# Altium schematic symbol library lib_te.SchLib: 1 symbol
Pins are listed as number, name and electrical type; pins without a type are passive.

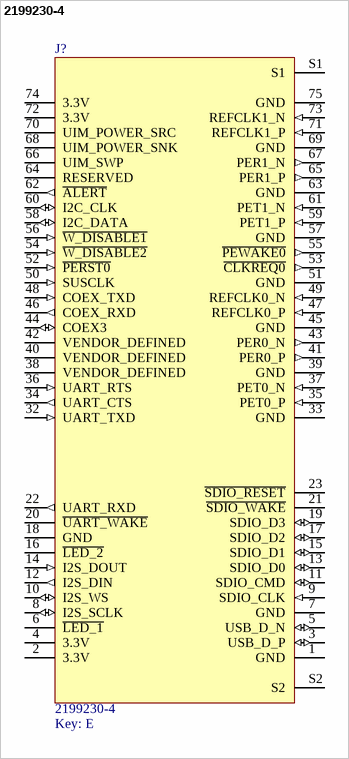
[diagram p0: symbol 2199230-4]

## 2199230-4
designator J?  Key: E
M.2 NGFF, M.2 Connectors, Connector Height .165 in [4.2 mm], E Keying Code, Gold, Board-to-Board, 67 Position, .5mm [.02in] Centerline
footprint TE_2199230-4
pins: 1 GND (power), 2 3.3V (power), 3 USB_D_P (io), 4 3.3V (power), 5 USB_D_N (io), 6 ~{LED_1} (oc), 7 GND (power), 8 I2S_SCLK (io), 9 SDIO_CLK (in), 10 I2S_WS (io), 11 SDIO_CMD (io), 12 I2S_DIN (out), 13 SDIO_D0 (io), 14 I2S_DOUT (in), 15 SDIO_D1 (io), 16 ~{LED_2} (oc), 17 SDIO_D2 (io), 18 GND (power), 19 SDIO_D3 (io), 20 ~{UART_WAKE} (oc), 21 ~{SDIO_WAKE} (oc), 22 UART_RXD (out), 23 ~{SDIO_RESET} (oc), 32 UART_TXD (in), 33 GND (power), 34 UART_CTS (out), 35 PET0_P (in), 36 UART_RTS (in), 37 PET0_N (in), 38 VENDOR_DEFINED, 39 GND (power), 40 VENDOR_DEFINED, 41 PER0_P (out), 42 VENDOR_DEFINED, 43 PER0_N (out), 44 COEX3 (io), 45 GND (power), 46 COEX_RXD (out), 47 REFCLK0_P (in), 48 COEX_TXD (in), 49 REFCLK0_N (in), 50 SUSCLK (in), 51 GND (power), 52 ~{PERST0} (in), 53 ~{CLKREQ0} (out), 54 ~{W_DISABLE2} (in), 55 ~{PEWAKE0} (out), 56 ~{W_DISABLE1} (in), 57 GND (power), 58 I2C_DATA (io), 59 PET1_P (in), 60 I2C_CLK (io), 61 PET1_N (in), 62 ~{ALERT} (out), 63 GND (power), 64 RESERVED, 65 PER1_P (out), 66 UIM_SWP, 67 PER1_N (out), 68 UIM_POWER_SNK, 69 GND (power), 70 UIM_POWER_SRC, 71 REFCLK1_P (in), 72 3.3V (power), 73 REFCLK1_N (in), 74 3.3V (power), 75 GND (power), S1, S2